# EAGLE library part LM25011 (library ic-National)
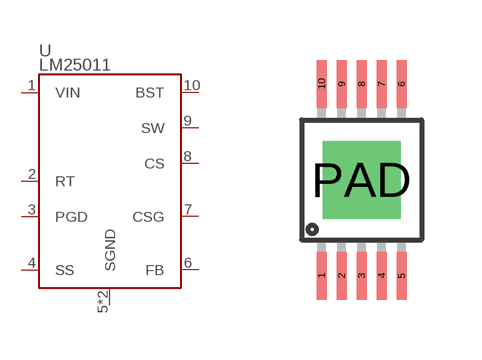
[diagram p1: symbol with the pads of MSOP10-PAD; footprint MSOP10-PAD]

Designator prefix U

## LM25011  [MSOP10-PAD]
1  VIN
2  RT
3  PGD
4  SS
5  SGND
6  FB
7  CSG
8  CS
9  SW
10  BST
PAD  SGND

## Footprint MSOP10-PAD (pad centres in mm)
smd 0.25 x 1.2: 1 -1,-2.4; 2 -0.5,-2.4; 3 0,-2.4; 4 0.5,-2.4; 5 1,-2.4; 6 1,2.4; 7 0.5,2.4; 8 0,2.4; 9 -0.5,2.4; 10 -1,2.4
drill 1.3 pad 1.9 square: PAD 0,0